# Altium footprint library 2020-01-08_20-21-54.PcbLib: 1 footprints
Each footprint in its own frame and in the unit in brackets; x right, y up, seen from the top. Pads: shape width x height; smd on the part's side, far side on the other; paste and mask are expansions set on the pad; w line width, h text height; cw(c..) or ccw(c..) is an arc to the next point about the centre after c.
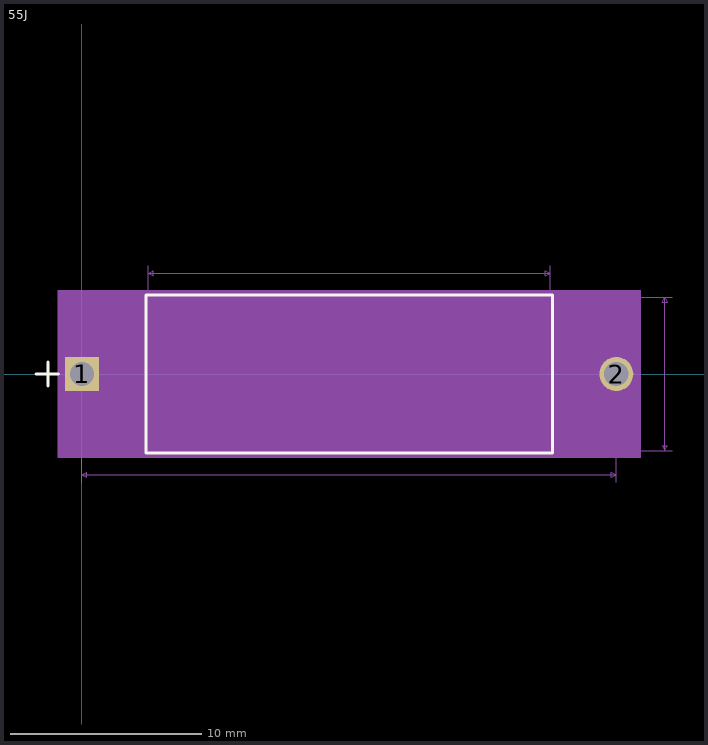
[diagram p0: the footprint, top view; thin cyan lines are the x and y axes]

## 55J [mil]
pads (2):
  rect 70x70 hole 50 mask+0: 1(0,0)
  round 70 hole 50 mask+0: 2(1100,0)
Top Overlay:
  lines w6: -95,0 -48.1,0 ; -70,-25 -70,25 ; 131.5,-162.5 131.5,162.5 968.5,162.5 968.5,-162.5 131.5,-162.5
Mechanical 5:
  region: 1150,-172.5 -50,-172.5 -50,172.5 1150,172.5
Mechanical 7:
  lines w1: 0,-222.5 0,0 ; 136.5,157.5 136.5,222.5 ; 963.5,-157.5 1215,-157.5 ; 963.5,222.5 963.5,157.5 1215,157.5 ; 1100,-222.5 1100,0 ; 0,-207.5 10,-212.5 10,-202.5 0,-207.5 ; 0,-207.5 1100,-207.5 ; 136.5,207.5 146.5,202.5 146.5,212.5 136.5,207.5 ; 136.5,207.5 963.5,207.5 ; 963.5,207.5 953.5,202.5 953.5,212.5 963.5,207.5 ; 1100,-207.5 1090,-212.5 1090,-202.5 1100,-207.5 ; 1200,-157.5 1205,-147.5 1195,-147.5 1200,-157.5 ; 1200,-157.5 1200,157.5 ; 1200,157.5 1205,147.5 1195,147.5 1200,157.5
  text "0.827in/21.006mm" at 450,227.5 h25
  text "1.1in/27.94mm" at 468.75,-252.5 h25
  text "0.315in/8.001mm" at 1220,-12.5 h25
  text "Alt 2 Pad Style: b229_152h76" at 200,-582.5 h50
  text "Alt 1 Pad Style: b152_229h76" at 200,-507.5 h50
  text "Default Pad Style: c178h127" at 212.5,-432.5 h50
  text "Pin 1 Pad Style: s178h127" at 237.5,-357.5 h50
Mechanical 13:
  lines w1: -95,0 -45,0 ; -70,-25 -70,25 ; 0,0 136.5,0 ; 963.5,0 1100,0 ; 136.5,-157.5 136.5,157.5 963.5,157.5 963.5,-157.5 136.5,-157.5
Mechanical 15:
  region: 126.5,-44.5 -45,-44.5 -45,44.5 126.5,44.5 126.5,167.5 973.5,167.5 973.5,44.5 1145,44.5 1145,-44.5 973.5,-44.5 973.5,-167.5 126.5,-167.5
  lines w6: -45,-44.5 126.5,-44.5 126.5,-167.5 973.5,-167.5 973.5,-44.5 1145,-44.5 1145,44.5 973.5,44.5 973.5,167.5 126.5,167.5 126.5,44.5 -45,44.5 -45,-44.5
3D body: height 10, standoff 0, extent 0,0 10,10